# Altium footprint library 封装.PcbLib: 5 footprints
Each footprint in its own frame and in the unit in brackets; x right, y up, seen from the top. Pads: shape width x height; smd on the part's side, far side on the other; paste and mask are expansions set on the pad; w line width, h text height; cw(c..) or ccw(c..) is an arc to the next point about the centre after c.
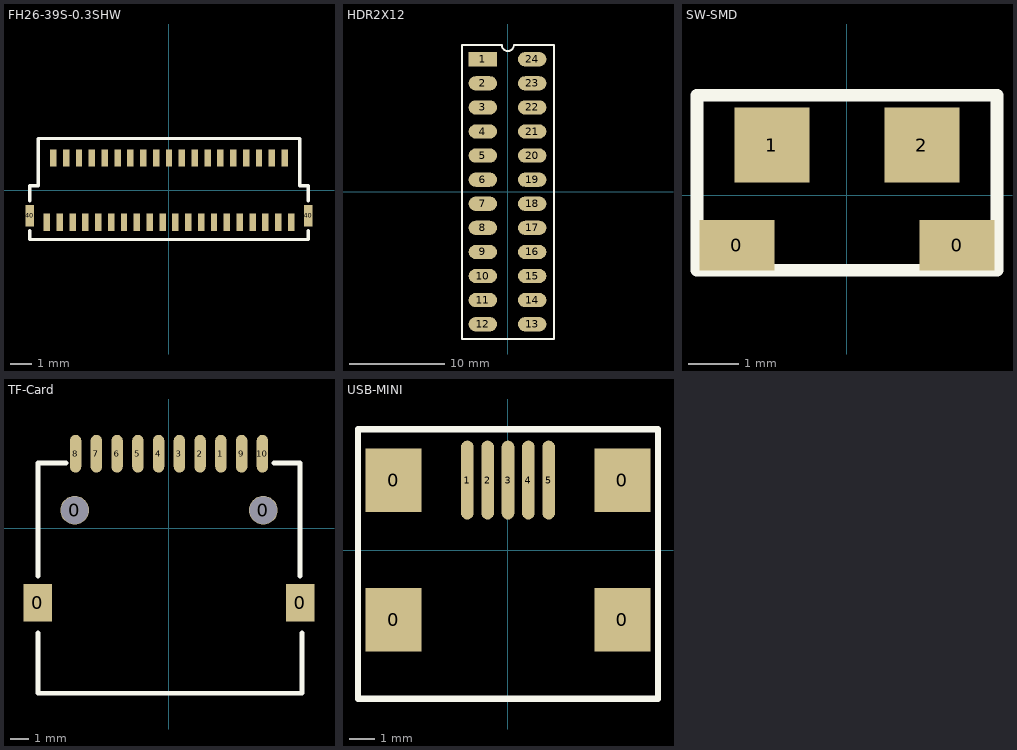
[diagram p0: the footprints below, top view; thin cyan lines are the x and y axes]

## FH26-39S-0.3SHW [mm]
pads (41):
  rect 0.3x0.8 smd: 1(5.7,-1.5) 2(5.4,1.5) 3(5.1,-1.5) 4(4.8,1.5) 5(4.5,-1.5) 6(4.2,1.5) 7(3.9,-1.5) 8(3.6,1.5) 9(3.3,-1.5) 10(3,1.5) 11(2.7,-1.5) 12(2.4,1.5) 13(2.1,-1.5) 14(1.8,1.5) 15(1.5,-1.5) 16(1.2,1.5) 17(0.9,-1.5) 18(0.6,1.5) 19(0.3,-1.5) 20(0,1.5) 21(-0.3,-1.5) 22(-0.6,1.5) 23(-0.9,-1.5) 24(-1.2,1.5) 25(-1.5,-1.5) 26(-1.8,1.5) 27(-2.1,-1.5) 28(-2.4,1.5) 29(-2.7,-1.5) 30(-3,1.5) 31(-3.3,-1.5) 32(-3.6,1.5) 33(-3.9,-1.5) 34(-4.2,1.5) 35(-4.5,-1.5) 36(-4.8,1.5) 37(-5.1,-1.5) 38(-5.4,1.5) 39(-5.7,-1.5)
  rect 0.4x1 smd: 40(-6.5,-1.2) 40(6.5,-1.2)
Top Overlay:
  lines w0.15: -6.5,-1.9 -6.5,-2.3 6.5,-2.3 6.5,-1.9 ; -6.5,-0.5 -6.5,0.2 -6.1,0.2 -6.1,2.4 6.1,2.4 6.1,0.2 6.5,0.2 6.5,-0.5

## HDR2X12 [mm]
pads (24):
  rect 3x1.5 smd: 1(-2.6,13.97)
  oval 3x1.5 smd: 2(-2.6,11.43) 3(-2.6,8.89) 4(-2.6,6.35) 5(-2.6,3.81) 6(-2.6,1.27) 7(-2.6,-1.27) 8(-2.6,-3.81) 9(-2.6,-6.35) 10(-2.6,-8.89) 11(-2.6,-11.43) 12(-2.6,-13.97) 13(2.6,-13.97) 14(2.6,-11.43) 15(2.6,-8.89) 16(2.6,-6.35) 17(2.6,-3.81) 18(2.6,-1.27) 19(2.6,1.27) 20(2.6,3.81) 21(2.6,6.35) 22(2.6,8.89) 23(2.6,11.43) 24(2.6,13.97)
Top Overlay:
  lines w0.2: -0.635,15.47 -4.8,15.47 -4.8,-15.53 4.9,-15.53 4.9,15.47 0.67,15.47 cw(c0.035,15.47) -0.6,15.47

## SW-SMD [mm]
pads (4):
  rect 1.5x1 smd: 0(-2.2,-1) 0(2.2,-1)
  rect 1.5x1.5 smd: 1(-1.5,1) 2(1.5,1)
Top Overlay:
  lines w0.254: -3,-1.5 3,-1.5 3,2 -3,2 -3,-1.5

## TF-Card [mm]
pads (14):
  rect 1.5x2 smd: 0(-6.95,-3.95) 0(6.95,-3.95)
  round 1.524 hole 1.45: 0(-5,0.95) 0(5,0.95)
  oval 0.6x2 smd: 1(2.75,3.95) 2(1.65,3.95) 3(0.55,3.95) 4(-0.55,3.95) 5(-1.65,3.95) 6(-2.75,3.95) 7(-3.85,3.95) 8(-4.95,3.95) 9(3.85,3.95) 10(4.95,3.95)
Top Overlay:
  lines w0.254: -6.95,-5.55 -6.95,-8.75 7.05,-8.75 7.05,-5.55 ; -6.95,-2.55 -6.95,3.45 -5.45,3.45 ; 5.55,3.45 6.95,3.45 6.95,-2.55

## USB-MINI [mm]
pads (9):
  rect 2.2x2.5 smd: 0(-4.5,-2.75) 0(-4.5,2.75) 0(4.5,-2.75) 0(4.5,2.75)
  oval 0.5x3.1 smd: 1(-1.6,2.75) 2(-0.8,2.75) 3(0,2.75) 4(0.8,2.75) 5(1.6,2.75)
Top Overlay:
  lines w0.254: -5.9,-5.85 5.9,-5.85 5.9,4.75 -5.9,4.75 -5.9,-5.85